# EAGLE library part FAN7888_HEX_MOSFET_DRIVER (library Taylor)
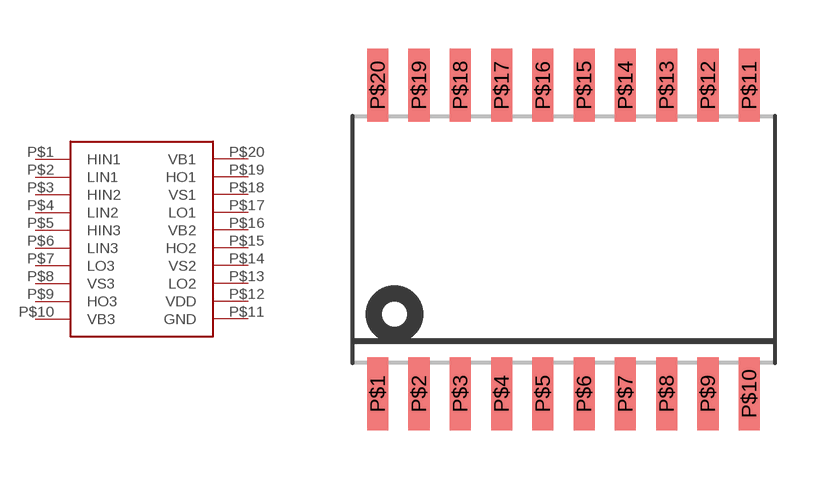
[diagram p8: symbol with the pads of SOIC-20; footprint SOIC-20]

Designator prefix -

## FAN7888_HEX_MOSFET_DRIVERFAN7888_HEX_DRIVER  [SOIC-20]
P$1  HIN1
P$2  LIN1
P$3  HIN2
P$4  LIN2
P$5  HIN3
P$6  LIN3
P$7  LO3
P$8  VS3
P$9  HO3
P$10  VB3
P$11  GND
P$12  VDD
P$13  LO2
P$14  VS2
P$15  HO2
P$16  VB2
P$17  LO1
P$18  VS1
P$19  HO1
P$20  VB1

## Footprint SOIC-20 (pad centres in mm)
smd 0.65 x 2.25: P$1 -5.715,-4.75; P$2 -4.445,-4.75; P$3 -3.175,-4.75; P$4 -1.905,-4.75; P$5 -0.635,-4.75; P$6 0.635,-4.75; P$7 1.905,-4.75; P$8 3.175,-4.75; P$9 4.445,-4.75; P$10 5.715,-4.75; P$11 5.715,4.75; P$12 4.445,4.75; P$13 3.175,4.75; P$14 1.905,4.75; P$15 0.635,4.75; P$16 -0.635,4.75; P$17 -1.905,4.75; P$18 -3.175,4.75; P$19 -4.445,4.75; P$20 -5.715,4.75